# EAGLE library part 6PIN (library 6PIN)
6 Pin Connector for Head of Shield2Go Boards
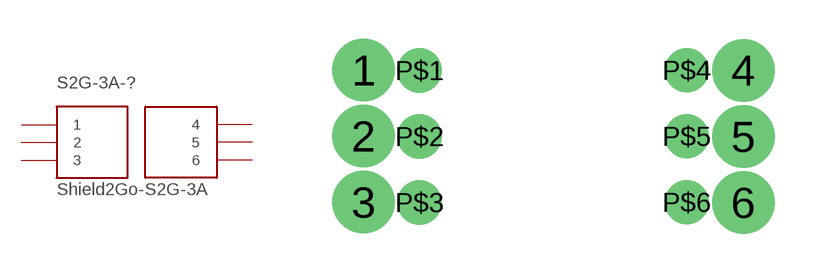
[diagram p0: symbol with the pads of 6PIN; footprint 6PIN]

Designator prefix -

## 6PIN  [6PIN]
1  1
2  2
3  3
4  4
5  5
6  6
P$1  1
P$2  2
P$3  3
P$4  4
P$5  5
P$6  6

## Footprint 6PIN (pad centres in mm)
drill 1.6 pad 1.7: 1 -0.35,5.89; 2 -0.35,3.35; 3 -0.35,0.81; 4 14.26,5.88; 5 14.26,3.34; 6 14.26,0.8
drill 1.1 pad 1.7: P$1 1.8,5.88; P$2 1.8,3.34; P$3 1.8,0.8; P$4 12.08,5.89; P$5 12.08,3.35; P$6 12.08,0.81